# EAGLE library part HTS221 (library HTS221)
Capacitive digital sensor for relative humidity and temperature
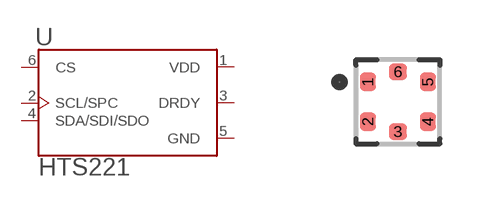
[diagram p0: symbol with the pads of XDCR_HTS221; footprint XDCR_HTS221]

Designator prefix U

## HTS221 (Description: Capacitive digital sensor for relative humidity and temperature; Digi-Key_Part_Number: 497-15382-2-ND; Digi-Key_Purchase_URL: https://www.digikey.co.id/product-detail/en/stmicroelectronics/HTS221TR/497-15382-2-ND/5180551?utm_source=snapeda&utm_medium=aggregator&utm_campaign=symbol; MF: STMicroelectronics; MP: HTS221; Package: None)  [XDCR_HTS221]
1  VDD  pwr
2  SCL/SPC  in
3  DRDY  out
4  SDA/SDI/SDO
5  GND  pwr
6  CS  in

## Footprint XDCR_HTS221 (pad centres in mm)
smd 0.4 x 0.45: 1 -0.75,0.5; 2 -0.75,-0.5; 4 0.75,-0.5; 5 0.75,0.5
smd 0.45 x 0.4: 3 0,-0.75; 6 0,0.75